# Altium footprint library Connectors.PcbLib: 58 footprints (part 3 of 4)
Each footprint in its own frame and in the unit in brackets; x right, y up, seen from the top. Pads: shape width x height; smd on the part's side, far side on the other; paste and mask are expansions set on the pad; w line width, h text height; cw(c..) or ccw(c..) is an arc to the next point about the centre after c.
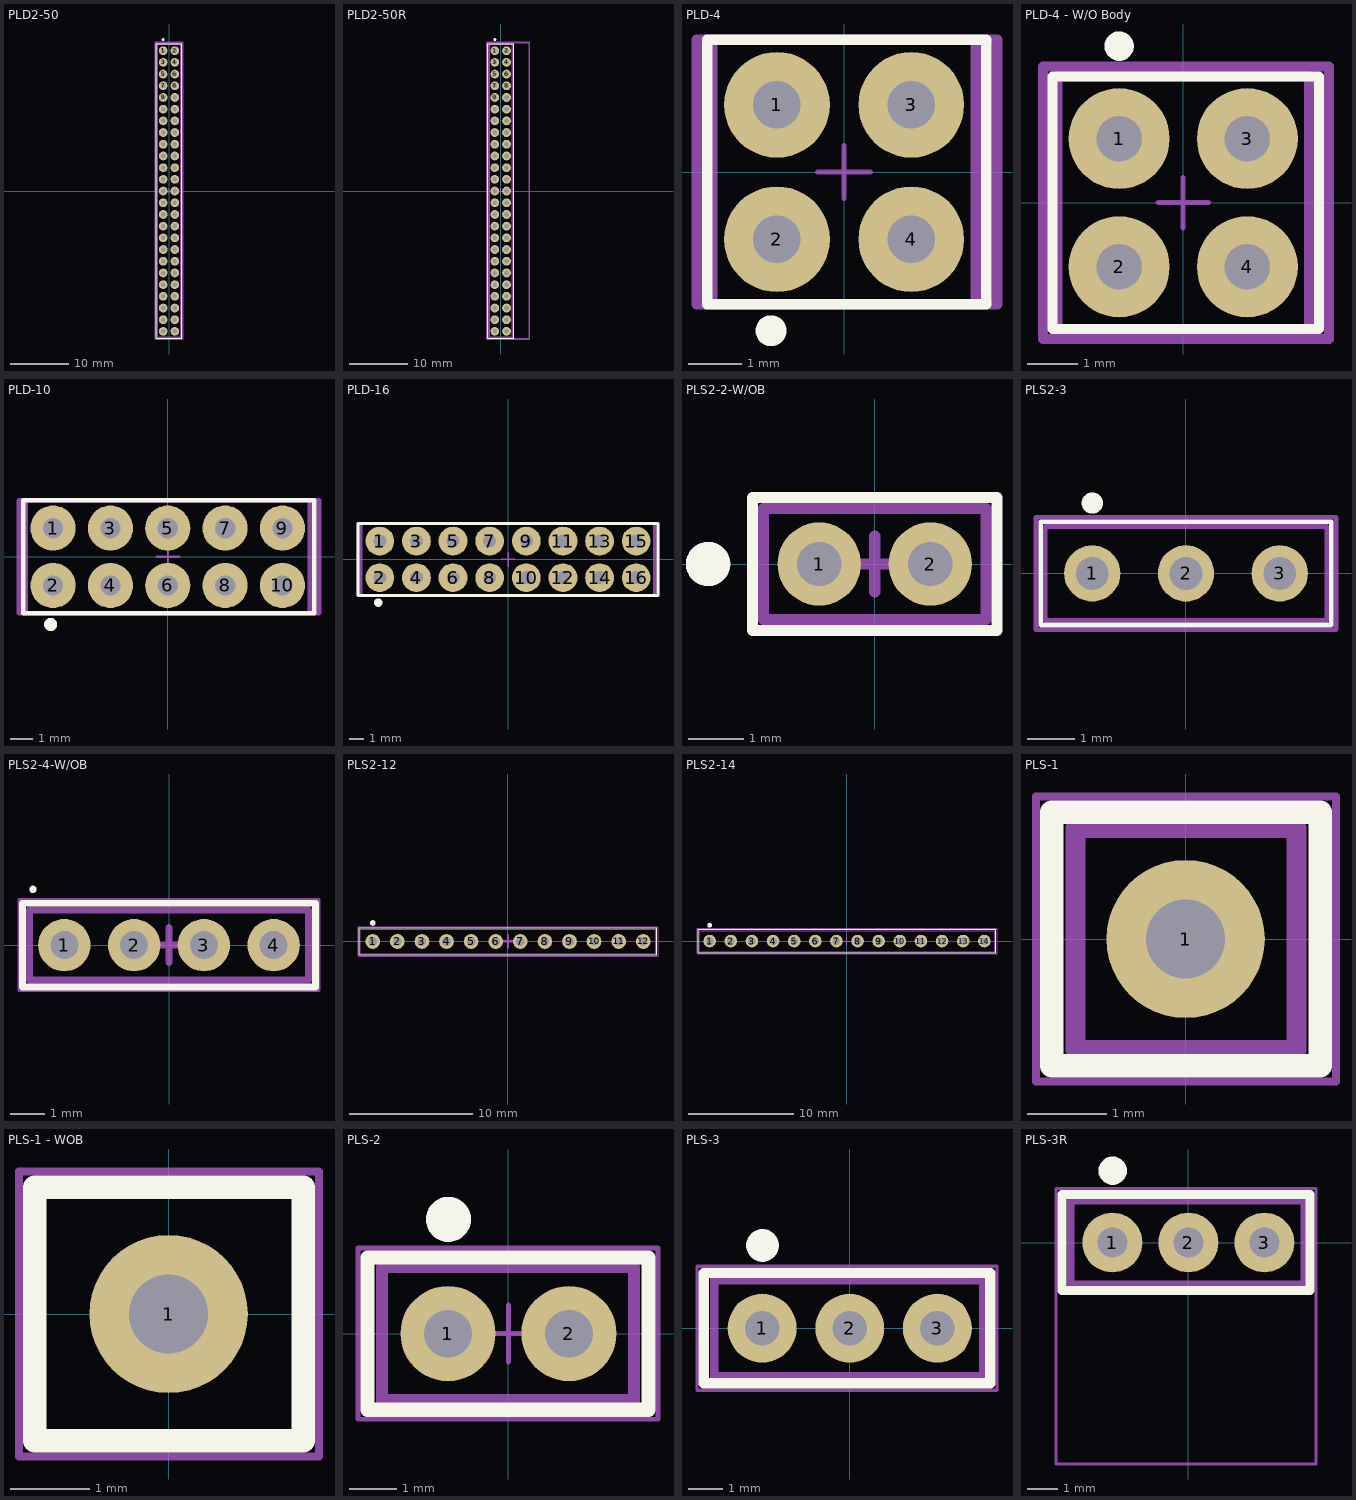
[diagram p2: the footprints below, top view; thin cyan lines are the x and y axes]

## PLD2-50 [mm] "2mm 2x50 Pin, angular"
pads (50):
  round 1.5 hole 0.8: 1(-1,24) 2(1,24) 3(-1,22) 4(1,22) 5(-1,20) 6(1,20) 7(-1,18) 8(1,18) 9(-1,16) 10(1,16) 11(-1,14) 12(1,14) 13(-1,12) 14(1,12) 15(-1,10) 16(1,10) 17(-1,8) 18(1,8) 19(-1,6) 20(1,6) 21(-1,4) 22(1,4) 23(-1,2) 24(1,2) 25(-1,0) 26(1,0) 27(-1,-2) 28(1,-2) 29(-1,-4) 30(1,-4) 31(-1,-6) 32(1,-6) 33(-1,-8) 34(1,-8) 35(-1,-10) 36(1,-10) 37(-1,-12) 38(1,-12) 39(-1,-14) 40(1,-14) 41(-1,-16) 42(1,-16) 43(-1,-18) 44(1,-18) 45(-1,-20) 46(1,-20) 47(-1,-22) 48(1,-22) 49(-1,-24) 50(1,-24)
Top Overlay:
  circle w0.3: c-1,25.9 r0.1
  lines w0.2: -2.2,-25.2 2.2,-25.2 2.2,25.2 -2.2,25.2 -2.2,-25.2
AssemblyTop:
  lines w0.3: -2,-25 2,-25 2,25.1 -2,25.1 -2,-25
InstallationTop:
  lines w0.1: -0.5,0 0.5,0 ; 0,-0.5 0,0.5
  lines w0.3: -2.3,-25.3 2.3,-25.3 2.3,25.4 -2.3,25.4 -2.3,-25.3
3D body "User Library-PLD2-10.step": height 5.5, standoff -2.5, extent -2.3,15 2.3,25
3D body "User Library-PLD2-10.step": height 5.5, standoff -2.5, extent -2.3,5 2.3,15
3D body "User Library-PLD2-10.step": height 5.5, standoff -2.5, extent -2.3,-5 2.3,5
3D body "User Library-PLD2-10.step": height 5.5, standoff -2.5, extent -2.3,-15 2.3,-5
3D body "User Library-PLD2-10.step": height 5.5, standoff -2.5, extent -2.3,-25 2.3,-15

## PLD2-50R [mm] "2mm 2x50 Pin, angular"
pads (50):
  round 1.5 hole 0.8: 1(-1,24) 2(1,24) 3(-1,22) 4(1,22) 5(-1,20) 6(1,20) 7(-1,18) 8(1,18) 9(-1,16) 10(1,16) 11(-1,14) 12(1,14) 13(-1,12) 14(1,12) 15(-1,10) 16(1,10) 17(-1,8) 18(1,8) 19(-1,6) 20(1,6) 21(-1,4) 22(1,4) 23(-1,2) 24(1,2) 25(-1,0) 26(1,0) 27(-1,-2) 28(1,-2) 29(-1,-4) 30(1,-4) 31(-1,-6) 32(1,-6) 33(-1,-8) 34(1,-8) 35(-1,-10) 36(1,-10) 37(-1,-12) 38(1,-12) 39(-1,-14) 40(1,-14) 41(-1,-16) 42(1,-16) 43(-1,-18) 44(1,-18) 45(-1,-20) 46(1,-20) 47(-1,-22) 48(1,-22) 49(-1,-24) 50(1,-24)
Top Overlay:
  circle w0.3: c-1,25.9 r0.1
  lines w0.2: -2.2,-25.2 -2.2,25.2 2.2,25.2 2.2,-25.2 -2.2,-25.2
AssemblyTop:
  lines w0.3: -2,-25 -2,25.1 2,25.1 2,-25 -2,-25
InstallationTop:
  lines w0.1: -0.5,0 0.5,0 ; 0,-0.5 0,0.5
  lines w0.3: -2.4,-25.3 -2.4,25.4 4.9,25.4 4.9,-25.3 -2.4,-25.3
3D body "User Library-PLD2-xx-R.step": height 5.35, standoff -3.9, extent -2,-25 4.8,25

## PLD-4 [mm] "PLD 2.54mm pitch"
pads (4):
  round 2 hole 0.9: 1(-1.27,1.27) 2(-1.27,-1.27) 3(1.27,1.27) 4(1.27,-1.27)
Top Overlay:
  circle w0.3: c-1.38,-3 r0.141
  lines w0.2: -2.59,-2.5 2.69,-2.5 2.69,2.5 -2.59,2.5 -2.59,-2.5
AssemblyTop:
  lines w0.2: -2.49,-2.5 2.49,-2.5 2.49,2.5 -2.49,2.5 -2.49,-2.5
InstallationTop:
  lines w0.1: -0.5,0 0.5,0 ; 0,-0.5 0,0.5
  lines w0.2: -2.78,-2.5 2.89,-2.5 2.89,2.5 -2.78,2.5 -2.78,-2.5
3D body "User Library-PLS-1.STEP": height 8.44, standoff -3, extent -2.54,0 0,2.54
3D body "User Library-PLS-1.STEP": height 8.44, standoff -3, extent -2.54,-2.54 0,0
3D body "User Library-PLS-1.STEP": height 8.44, standoff -3, extent 0,0 2.54,2.54
3D body "User Library-PLS-1.STEP": height 8.44, standoff -3, extent 0,-2.54 2.54,0

## PLD-4 - W/O Body [mm] "PLD 2.54mm pitch"
pads (4):
  round 2 hole 0.9: 1(-1.27,1.27) 2(-1.27,-1.27) 3(1.27,1.27) 4(1.27,-1.27)
Top Overlay:
  circle w0.3: c-1.27,3.1 r0.141
  lines w0.2: -2.59,-2.5 -2.59,2.5 2.69,2.5 2.69,-2.5 -2.59,-2.5
AssemblyTop:
  lines w0.2: -2.49,-2.5 -2.49,2.5 2.49,2.5 2.49,-2.5 -2.49,-2.5
InstallationTop:
  lines w0.1: -0.5,0 0.5,0 ; 0,-0.5 0,0.5
  lines w0.2: -2.78,-2.7 -2.78,2.7 2.89,2.7 2.89,-2.7 -2.78,-2.7

## PLD-10 [mm] "PLD 2.54mm pitch"
pads (10):
  round 2 hole 0.9: 1(-5.08,1.27) 2(-5.08,-1.27) 3(-2.54,1.27) 4(-2.54,-1.27) 5(0,1.27) 6(0,-1.27) 7(2.54,1.27) 8(2.54,-1.27) 9(5.08,1.27) 10(5.08,-1.27)
Top Overlay:
  circle w0.3: c-5.19,-3 r0.141
  lines w0.2: -6.4,-2.5 -6.4,2.5 6.5,2.5 6.5,-2.5 -6.4,-2.5
AssemblyTop:
  lines w0.2: -6.3,-2.5 -6.3,2.5 6.3,2.5 6.3,-2.5 -6.3,-2.5
InstallationTop:
  lines w0.1: -0.49,0 0.51,0 ; 0.01,-0.5 0.01,0.5
  lines w0.2: -6.59,-2.5 -6.59,2.5 6.7,2.5 6.7,-2.5 -6.59,-2.5
3D body "User Library-PLD-10-2.step": height 8.54, standoff -3, extent -6.35,-2.54 6.35,2.54

## PLD-16 [mm] "PLD 2.54mm pitch"
pads (16):
  round 2 hole 0.9: 1(-8.89,1.27) 2(-8.89,-1.27) 3(-6.35,1.27) 4(-6.35,-1.27) 5(-3.81,1.27) 6(-3.81,-1.27) 7(-1.27,1.27) 8(-1.27,-1.27) 9(1.27,1.27) 10(1.27,-1.27) 11(3.81,1.27) 12(3.81,-1.27) 13(6.35,1.27) 14(6.35,-1.27) 15(8.89,1.27) 16(8.89,-1.27)
Top Overlay:
  circle w0.3: c-9,-3 r0.141
  lines w0.2: -10.4,-2.5 10.4,-2.5 10.4,2.5 -10.4,2.5 -10.4,-2.5
AssemblyTop:
  lines w0.2: -10.2,-2.5 10.16,-2.5 10.16,2.5 -10.2,2.5 -10.2,-2.5
InstallationTop:
  lines w0.1: -0.5,0 0.5,0 ; 0,-0.5 0,0.5
  lines w0.2: -10.4,-2.5 10.4,-2.5 10.4,2.5 -10.4,2.5 -10.4,-2.5
3D body "User Library-PLD-16.step": height 6.1, standoff -5.5, extent -10.16,-2.5 10.16,2.5

## PLS2-2-W/OB [mm]
pads (2):
  round 1.5 hole 0.8: 1(-1,0) 2(1,0)
Top Overlay:
  circle w0.4: c-3,0 r0.2
  lines w0.2: -2.2,-1.2 -2.2,1.2 2.2,1.2 2.2,-1.2 -2.2,-1.2
AssemblyTop:
  lines w0.2: -2,-1 -2,1 2,1 2,-1 -2,-1
InstallationTop:
  lines w0.2: -0.5,0 0.5,0 ; 0,-0.5 0,0.5

## PLS2-3 [mm]
pads (3):
  round 1.2 hole 0.7: 1(-2,0) 2(0,0) 3(2,0)
Top Overlay:
  circle w0.254: c-2,1.5 r0.1
  lines w0.1: -3.1,-1.1 -3.1,1.1 3.1,1.1 3.1,-1.1 -3.1,-1.1
AssemblyTop:
  lines w0.1: -3,-1 -3,0.8 -3,1 3,1 3,-1 -3,-1
InstallationTop:
  lines w0.1: -3.2,-1.2 -3.2,1.2 3.2,1.2 3.2,-1.2 -3.2,-1.2
  lines w0.2: -0.5,0 0.5,0 -0.5,0 ; 0,-0.5 0,0.5 0,-0.5
3D body "User Library-pls2-3.STEP": height 6.3, standoff -2.5, extent -3,-1 3,1

## PLS2-4-W/OB [mm] "PLS 2mm pitch"
pads (4):
  round 1.5 hole 0.8: 1(-3,0) 2(-1,0) 3(1,0) 4(3,0)
Top Overlay:
  circle w0.11: c-3.9,1.6 r0.05
  lines w0.2: -4.2,-1.2 -4.2,1.2 4.2,1.2 4.2,-1.2 -4.2,-1.2
AssemblyTop:
  lines w0.2: -4,-1 -4,1 4,1 4,-1 -4,-1
InstallationTop:
  lines w0.1: -4.3,-1.3 4.3,-1.3 4.3,1.3 -4.3,1.3 -4.3,-1.3
  lines w0.2: -0.5,0 0.5,0 ; 0,-0.5 0,0.5

## PLS2-12 [mm]
pads (12):
  round 1.2 hole 0.7: 1(-11,0) 2(-9,0) 3(-7,0) 4(-5,0) 5(-3,0) 6(-1,0) 7(1,0) 8(3,0) 9(5,0) 10(7,0) 11(9,0) 12(11,0)
Top Overlay:
  circle w0.254: c-11,1.5 r0.1
  lines w0.1: -12.1,-1.1 12.1,-1.1 12.1,1.1 -12.1,1.1 -12.1,-1.1
AssemblyTop:
  lines w0.1: -12,-1 12,-1 12,1 -12,1 -12,0.8 -12,-1
InstallationTop:
  lines w0.1: -12.2,-1.2 12.2,-1.2 12.2,1.2 -12.2,1.2 -12.2,-1.2
  lines w0.2: -0.5,0 0.5,0 ; 0,-0.5 0,0.5
3D body "User Library-pls2-4_asm.STEP": height 6.3, standoff -2.5, extent -12,-1 -4,1
3D body "User Library-pls2-4_asm.STEP": height 6.3, standoff -2.5, extent -4,-1 4,1
3D body "User Library-pls2-4_asm.STEP": height 6.3, standoff -2.5, extent 4,-1 12,1

## PLS2-14 [mm]
pads (14):
  round 1.2 hole 0.7: 1(-13,0) 2(-11,0) 3(-9,0) 4(-7,0) 5(-5,0) 6(-3,0) 7(-1,0) 8(1,0) 9(3,0) 10(5,0) 11(7,0) 12(9,0) 13(11,0) 14(13,0)
Top Overlay:
  circle w0.254: c-13,1.5 r0.1
  lines w0.1: -14.1,-1.1 14.1,-1.1 14.1,1.1 -14.1,1.1 -14.1,-1.1
AssemblyTop:
  lines w0.1: -14,-1 14,-1 14,1 -14,1 -14,0.8 -14,-1
InstallationTop:
  lines w0.05: -0.5,0 0.5,0 ; 0,-0.5 0,0.5
  lines w0.1: -14.2,-1.2 14.2,-1.2 14.2,1.2 -14.2,1.2 -14.2,-1.2
3D body "User Library-pls2-4_asm.STEP": height 6.3, standoff -2.5, extent 6,-1 14,1
3D body "User Library-pls2-4_asm.STEP": height 6.3, standoff -2.5, extent -14,-1 -6,1
3D body "User Library-pls2-4_asm.STEP": height 6.3, standoff -2.5, extent -6,-1 2,1
3D body "User Library-pls2-4_asm.STEP": height 6.3, standoff -2.5, extent 2,-1 10,1

## PLS-1 [mm] "PLS 2.54mm pitch"
pads (1):
  round 2 hole 1: 1(0,0)
Top Overlay:
  lines w0.3: -1.69,-1.6 1.7,-1.6 1.7,1.6 -1.69,1.6 -1.69,-1.6
AssemblyTop:
  lines w0.254: -1.39,-1.4 1.4,-1.4 1.4,1.4 -1.39,1.4 -1.39,-1.4
InstallationTop:
  lines w0.1: -0.63,0 0.57,0 ; 0,-0.6 0,0.6 ; -1.89,-1.8 -1.89,1.8 1.9,1.8 1.9,-1.8 -1.89,-1.8
3D body "User Library-PLS-1.STEP": height 8.44, standoff -3, extent -1.27,-1.27 1.27,1.27

## PLS-1 - WOB [mm] "PLS 2.54mm pitch"
pads (1):
  round 2 hole 1: 1(0,0)
Top Overlay:
  lines w0.3: -1.69,-1.6 1.7,-1.6 1.7,1.6 -1.69,1.6 -1.69,-1.6
InstallationTop:
  lines w0.1: -0.63,0 0.57,0 ; 0,-0.6 0,0.6 ; -1.89,-1.8 -1.89,1.8 1.9,1.8 1.9,-1.8 -1.89,-1.8

## PLS-2 [mm] "PLS 2.54mm pitch"
pads (2):
  round 2 hole 1: 1(-1.27,0) 2(1.27,0)
Top Overlay:
  circle w0.5: c-1.26,2.4 r0.224
  lines w0.3: -2.96,-1.6 -2.96,1.6 2.94,1.6 2.94,-1.6 -2.96,-1.6
AssemblyTop:
  lines w0.254: -2.66,-1.4 -2.66,1.4 2.64,1.4 2.64,-1.4 -2.66,-1.4
InstallationTop:
  lines w0.1: -0.6,0 0.6,0 ; 0,-0.6 0,0.6 ; -3.16,-1.8 3.14,-1.8 3.14,1.8 -3.16,1.8 -3.16,-1.8
3D body "User Library-PLS-1.STEP": height 8.44, standoff -3, extent -2.54,-1.27 0,1.27
3D body "User Library-PLS-1.STEP": height 8.44, standoff -3, extent 0,-1.27 2.54,1.27

## PLS-3 [mm] "PLS 2.54mm pitch"
pads (3):
  round 2 hole 1: 1(-2.54,0) 2(0,0) 3(2.54,0)
Top Overlay:
  circle w0.5: c-2.53,2.4 r0.224
  lines w0.3: -4.23,-1.6 4.07,-1.6 4.07,1.6 -4.23,1.6 -4.23,-1.6
AssemblyTop:
  lines w0.254: -3.93,-1.4 -3.93,1.4 3.87,1.4 3.87,-1.4 -3.93,-1.4
InstallationTop:
  lines w0.1: -0.6,0 0.6,0 ; 0,-0.6 0,0.6 ; -4.43,-1.8 4.27,-1.8 4.27,1.8 -4.43,1.8 -4.43,-1.8
3D body "User Library-PLS-1.STEP": height 8.44, standoff -3, extent -3.81,-1.27 -1.27,1.27
3D body "User Library-PLS-1.STEP": height 8.44, standoff -3, extent -1.27,-1.27 1.27,1.27
3D body "User Library-PLS-1.STEP": height 8.44, standoff -3, extent 1.27,-1.27 3.81,1.27

## PLS-3R [mm] "PLS 2.54mm pitch"
pads (3):
  round 2 hole 1: 1(-2.54,0) 2(0,0) 3(2.54,0)
Top Overlay:
  circle w0.5: c-2.53,2.4 r0.224
  lines w0.3: -4.23,-1.6 4.07,-1.6 4.07,1.6 -4.23,1.6 -4.23,-1.6
AssemblyTop:
  lines w0.254: -3.93,-1.4 -3.93,1.4 3.87,1.4 3.87,-1.4 -3.93,-1.4
InstallationTop:
  lines w0.1: -0.6,0 0.6,0 ; 0,-0.6 0,0.6 ; -4.43,-7.4 4.27,-7.4 4.27,1.8 -4.43,1.8 -4.43,-7.4
3D body "User Library-PLS-1R.step": height 5.45, standoff -3, extent 1.27,-7.35 3.81,1.27
3D body "User Library-PLS-1R.step": height 5.45, standoff -3, extent -1.27,-7.35 1.27,1.27
3D body "User Library-PLS-1R.step": height 5.45, standoff -3, extent -3.81,-7.35 -1.27,1.27